# Altium footprint library PcbLib1.PcbLib: 3 footprints
Each footprint in its own frame and in the unit in brackets; x right, y up, seen from the top. Pads: shape width x height; smd on the part's side, far side on the other; paste and mask are expansions set on the pad; w line width, h text height; cw(c..) or ccw(c..) is an arc to the next point about the centre after c.
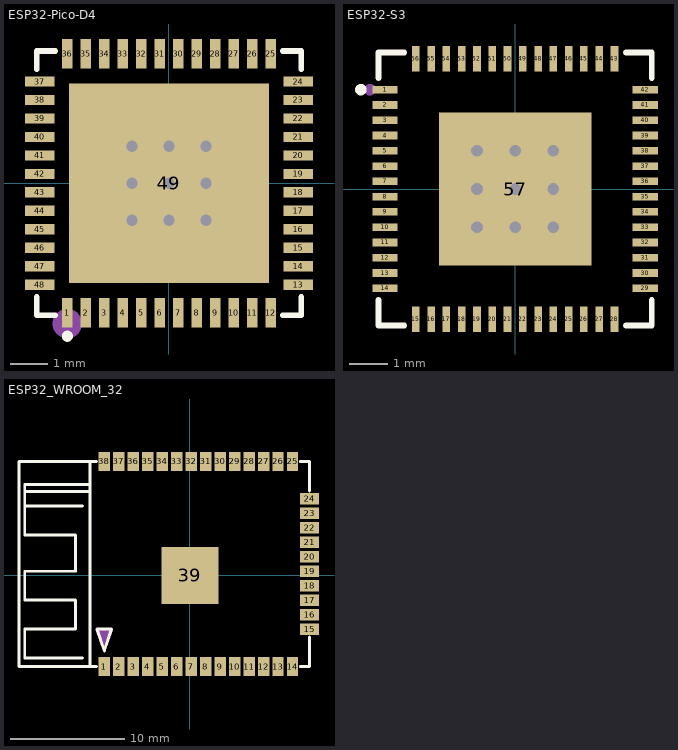
[diagram p0: the footprints below, top view; thin cyan lines are the x and y axes]

## ESP32-Pico-D4 [mm]
pads (49):
  rect 0.28x0.8 smd: 1(-2.75,-3.5) 2(-2.25,-3.5) 3(-1.75,-3.5) 4(-1.25,-3.5) 5(-0.75,-3.5) 6(-0.25,-3.5) 7(0.25,-3.5) 8(0.75,-3.5) 9(1.25,-3.5) 10(1.75,-3.5) 11(2.25,-3.5) 12(2.75,-3.5) 25(2.75,3.5) 26(2.25,3.5) 27(1.75,3.5) 28(1.25,3.5) 29(0.75,3.5) 30(0.25,3.5) 31(-0.25,3.5) 32(-0.75,3.5) 33(-1.25,3.5) 34(-1.75,3.5) 35(-2.25,3.5) 36(-2.75,3.5)
  rect 0.8x0.28 smd: 13(3.5,-2.75) 14(3.5,-2.25) 15(3.5,-1.75) 16(3.5,-1.25) 17(3.5,-0.75) 18(3.5,-0.25) 19(3.5,0.25) 20(3.5,0.75) 21(3.5,1.25) 22(3.5,1.75) 23(3.5,2.25) 24(3.5,2.75) 37(-3.5,2.75) 38(-3.5,2.25) 39(-3.5,1.75) 40(-3.5,1.25) 41(-3.5,0.75) 42(-3.5,0.25) 43(-3.5,-0.25) 44(-3.5,-0.75) 45(-3.5,-1.25) 46(-3.5,-1.75) 47(-3.5,-2.25) 48(-3.5,-2.75)
  rect 5.4x5.4 smd: 49(0,0)
via 0,0 diameter 0.61 hole 0.305
via -1,0 diameter 0.61 hole 0.305
via 1,-1 diameter 0.61 hole 0.305
via -1,-1 diameter 0.61 hole 0.305
via 1,0 diameter 0.61 hole 0.305
via 1,1 diameter 0.61 hole 0.305
via -1,1 diameter 0.61 hole 0.305
via 0,1 diameter 0.61 hole 0.305
via 0,-1 diameter 0.61 hole 0.305
Top Overlay:
  circle w0.15: c-2.75,-4.14 r0.075
  lines w0.152: -3.576,-3.08 -3.576,-3.576 -3.08,-3.576 ; -3.576,3.08 -3.576,3.576 -3.08,3.576 ; 3.081,-3.576 3.576,-3.576 3.576,-3.08 ; 3.081,3.576 3.576,3.576 3.576,3.08
Mechanical 15:
  circle w0.4: c-2.75,-3.8 r0.2

## ESP32-S3 [mm]
pads (57):
  rect 0.665x0.2 smd: 1(-3.407,2.6) 2(-3.407,2.2) 3(-3.407,1.8) 4(-3.407,1.4) 5(-3.407,1) 6(-3.407,0.6) 7(-3.407,0.2) 8(-3.407,-0.2) 9(-3.407,-0.6) 10(-3.407,-1) 11(-3.407,-1.4) 12(-3.407,-1.8) 13(-3.407,-2.2) 14(-3.407,-2.6) 29(3.408,-2.6) 30(3.408,-2.2) 31(3.408,-1.8) 32(3.408,-1.4) 33(3.408,-1) 34(3.408,-0.6) 35(3.408,-0.2) 36(3.408,0.2) 37(3.408,0.6) 38(3.408,1) 39(3.408,1.4) 40(3.408,1.8) 41(3.408,2.2) 42(3.408,2.6)
  rect 0.2x0.665 smd: 15(-2.6,-3.407) 16(-2.2,-3.407) 17(-1.8,-3.407) 18(-1.4,-3.407) 19(-1,-3.407) 20(-0.6,-3.407) 21(-0.2,-3.407) 22(0.2,-3.407) 23(0.6,-3.407) 24(1,-3.407) 25(1.4,-3.407) 26(1.8,-3.407) 27(2.2,-3.407) 28(2.6,-3.407) 43(2.6,3.408) 44(2.2,3.408) 45(1.8,3.408) 46(1.4,3.408) 47(1,3.408) 48(0.6,3.408) 49(0.2,3.408) 50(-0.2,3.408) 51(-0.6,3.408) 52(-1,3.408) 53(-1.4,3.408) 54(-1.8,3.408) 55(-2.2,3.408) 56(-2.6,3.408)
  rect 4x4 smd: 57(0,0)
via 1,0 diameter 0.61 hole 0.305
via 1,1 diameter 0.61 hole 0.305
via -1,0 diameter 0.61 hole 0.305
via -1,1 diameter 0.61 hole 0.305
via 1,-1 diameter 0.61 hole 0.305
via -1,-1 diameter 0.61 hole 0.305
via 0,0 diameter 0.61 hole 0.305
via 0.001,-1 diameter 0.61 hole 0.305
via 0,1 diameter 0.61 hole 0.305
Top Overlay:
  circle w0.15: c-4.04,2.6 r0.075
  lines w0.152: -3.576,-2.902 -3.576,-3.576 -2.902,-3.576 ; -3.576,2.903 -3.576,3.576 -2.902,3.576 ; 2.903,-3.576 3.576,-3.576 3.576,-2.902 ; 2.903,3.576 3.576,3.576 3.576,2.903
Mechanical 15:
  circle w0.15: c-3.8,2.6 r0.075

## ESP32_WROOM_32 [mm]
pads (39):
  rect 1x1.65 smd: 1(-7.495,-8) 2(-6.225,-8) 3(-4.955,-8) 4(-3.685,-8) 5(-2.415,-8) 6(-1.145,-8) 7(0.125,-8) 8(1.395,-8) 9(2.665,-8) 10(3.935,-8) 11(5.205,-8) 12(6.475,-8) 13(7.745,-8) 14(9.015,-8) 25(9.015,10) 26(7.745,10) 27(6.475,10) 28(5.205,10) 29(3.935,10) 30(2.665,10) 31(1.395,10) 32(0.125,10) 33(-1.145,10) 34(-2.415,10) 35(-3.685,10) 36(-4.955,10) 37(-6.225,10) 38(-7.495,10)
  rect 1.65x1 smd: 15(10.515,-4.715) 16(10.515,-3.445) 17(10.515,-2.175) 18(10.515,-0.905) 19(10.515,0.365) 20(10.515,1.635) 21(10.515,2.905) 22(10.515,4.175) 23(10.515,5.445) 24(10.515,6.715)
  rect 5x5 smd: 39(0,0)
Top Overlay:
  lines w0.254: -14.48,7.35 -14.48,6.08 ; -9.4,-7.255 -14.48,-7.255 -14.48,-4.715 -10.035,-4.715 -10.035,-2.175 -14.48,-2.175 -14.48,0.365 -10.035,0.365 -10.035,3.54 -14.48,3.54 -14.48,6.08 ; -9.4,6.08 -14.48,6.08 ; -8.765,-8 -8.765,10 ; -8.176,-8 -14.985,-8 -14.985,10 -8.176,10 ; 9.696,-8 10.515,-8 10.515,-5.396 ; 9.696,10 10.515,10 10.515,7.396 ; -14.48,7.35 -14.48,7.985 -8.765,7.985 -8.765,7.35 -14.48,7.35 ; -8.13,-4.715 -7.495,-6.62 -6.86,-4.715 -8.13,-4.715
Top Paste:
  drawing of 47 lines, arcs and shapes, not listed
Mechanical 15:
  region: -8.142,-4.702 -6.872,-4.702 -7.507,-6.607